# Altium schematic symbol library EFR32.SchLib: 1 symbol
Pins are listed as number, name and electrical type; pins without a type are passive.

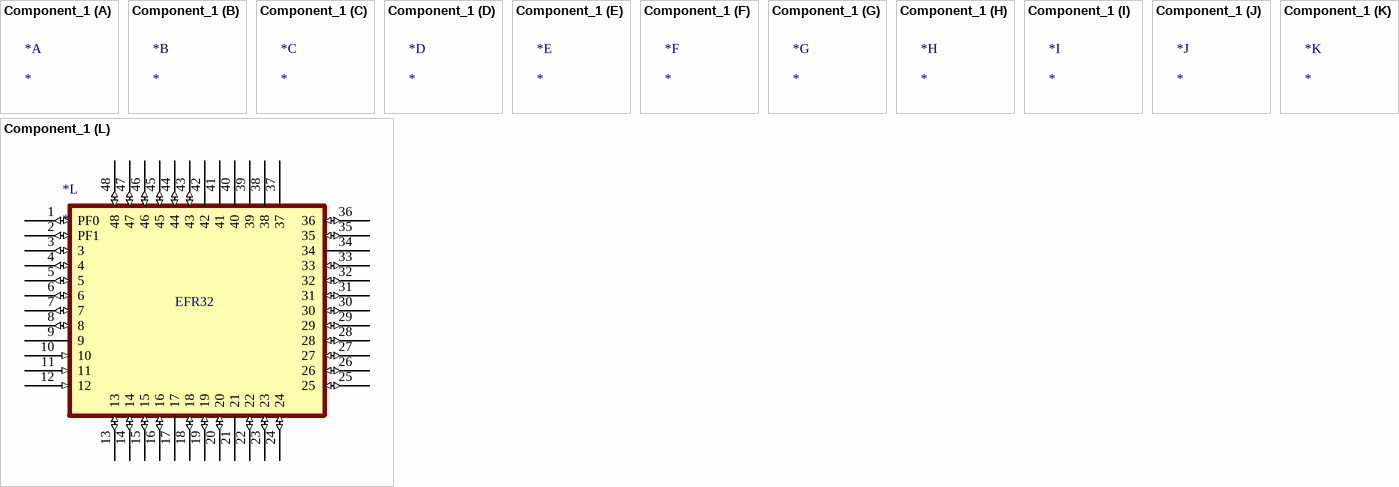
[diagram p0: symbol Component_1]

## Component_1
designator *
footprint PQFN50P700X700X80_HS-49N (PQFN, 48-Leads, Body 7.00x7.00mm, Pitch 0.50mm, Thermal Pad 4.70x4.70mm, IPC Medium Density)
part L pins: 1 PF0 (io), 2 PF1 (io), 3 (io), 4 (io), 5 (io), 6 (io), 7 (io), 8 (io), 9 (power), 10 (in), 11 (in), 12 (in), 13 (io), 14 (io), 15 (io), 16 (io), 17 (power), 18 (io), 19 (io), 20 (io), 21 (power), 22 (io), 23 (io), 24 (io), 25 (io), 26 (io), 27 (io), 28 (io), 29 (io), 30 (io), 31 (io), 32 (io), 33 (io), 34 (power), 35 (io), 36 (io), 37 (power), 38 (power), 39 (power), 40 (power), 41, 42 (power), 43 (io), 44 (io), 45 (io), 46 (io), 47 (io), 48 (io)
part L text: EFR32